# EAGLE library part DIGISPARK (library kb1vc_Arduino_Parts)
Digispark -- ATTiny arduino with minimal footprint
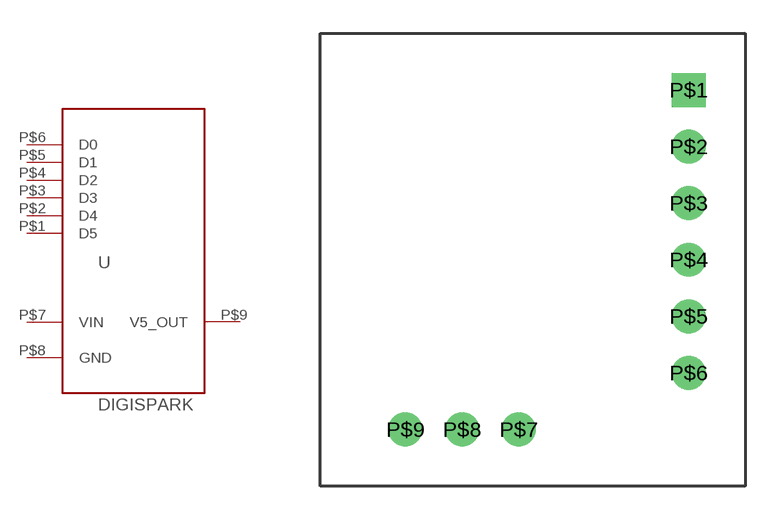
[diagram p1: symbol with the pads of DIGISPARK_FP; footprint DIGISPARK_FP]

Designator prefix -

## DIGISPARK  [DIGISPARK_FP]
P$1  D5
P$2  D4
P$3  D3
P$4  D2
P$5  D1
P$6  D0
P$7  VIN
P$8  GND
P$9  V5_OUT

## Footprint DIGISPARK_FP (pad centres in mm)
DigiStump DigiSpark arduino widget
drill 1.016 square: P$1 6.35,6.35
drill 1.016: P$2 6.35,3.81; P$3 6.35,1.27; P$4 6.35,-1.27; P$5 6.35,-3.81; P$6 6.35,-6.35; P$7 -1.27,-8.89; P$8 -3.81,-8.89; P$9 -6.35,-8.89